# Altium footprint library ECU.PcbLib: 19 footprints (part 2 of 2)
Each footprint in its own frame and in the unit in brackets; x right, y up, seen from the top. Pads: shape width x height; smd on the part's side, far side on the other; paste and mask are expansions set on the pad; w line width, h text height; cw(c..) or ccw(c..) is an arc to the next point about the centre after c.
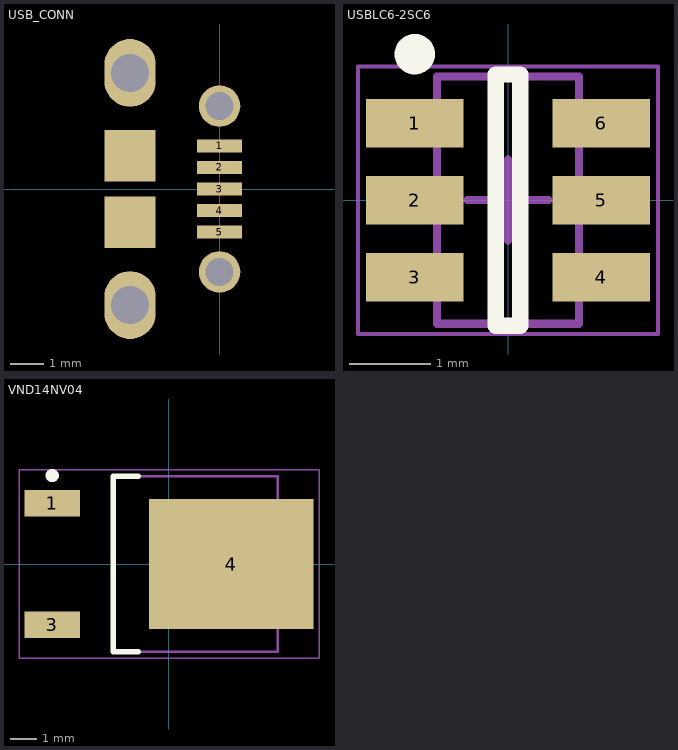
[diagram p1: the footprints below, top view; thin cyan lines are the x and y axes]

## USB_CONN [mm] "MicroUSB SMT R/A"
pads (11):
  rect 1.35x0.4 smd: 1(0,1.3) 2(0,0.65) 3(0,0) 4(0,-0.65) 5(0,-1.3)
  oval 1.55x2.05 hole 1.15: ""(-2.7,-3.5) ""(-2.7,3.5)
  rect 1.55x1.55 smd: ""(-2.7,-1) ""(-2.7,1)
  round 1.25 hole 0.85: ""(0,-2.5) ""(0,2.5)
3D body "10118194c.stp": height 2.72, standoff -0.55, extent -4.825,-4.025 0.755,4.025

## USBLC6-2SC6 [mm] "SOT23, 6-Leads, Body 3.05x1.75mm, Pitch 0.95mm"
height 1.45
pads (6):
  rect 1.2x0.6 smd: 1(-1.15,0.95) 2(-1.15,0) 3(-1.15,-0.95) 4(1.15,-0.95) 5(1.15,0) 6(1.15,0.95)
Top Overlay:
  circle w0.25: c-1.15,1.8 r0.125
  lines w0.2: -0.15,-1.55 0.15,-1.55 0.15,1.55 -0.15,1.55 -0.15,-1.55
Mechanical 13:
  lines w0.1: -0.875,-1.525 -0.875,1.525 0.875,1.525 0.875,-1.525 -0.875,-1.525
Mechanical 15:
  lines w0.05: -1.85,-1.65 -1.85,1.65 1.85,1.65 1.85,-1.65 -1.85,-1.65
  lines w0.1: -0.5,0 0.5,0 ; 0,-0.5 0,0.5
3D body "SOT95P280X145-6L.step": height 1.45, standoff 0, extent -1.6,-1.525 1.6,1.525

## VND14NV04 [mm] "D-PAK, 3-Pads, Body 6.20x6.66mm (max), IPC Medium Density"
height 2.4
pads (3):
  rect 2.1x1 smd: 1(-4.4,2.28) 3(-4.4,-2.28)
  rect 6.2x4.9 smd: 4(2.35,0)
Top Overlay:
  circle w0.25: c-4.4,3.33 r0.125
  lines w0.2: -1.15,-3.3 -2.1,-3.3 -2.1,3.3 -1.15,3.3
Mechanical 13:
  lines w0.1: -2.1,-3.3 4.1,-3.3 4.1,3.3 -2.1,3.3 -2.1,-3.3
Mechanical 15:
  lines w0.05: -5.65,-3.55 5.65,-3.55 5.65,3.55 -5.65,3.55 -5.65,-3.55
  lines w0.1: -0.5,0 0.5,0 ; 0,-0.5 0,0.5
3D body "VND14NV04.step": height 2.63, standoff 0, extent -4.225,-3.3 5.5,3.3